# EAGLE library part LM2671 (library microbuilder)
LM2671 High Efficiency 500mA Switching Step-Down Voltage Regulator. 6.5-40V Input. 3.3V SOIC-8: Digikey LM2671M-3.3-ND
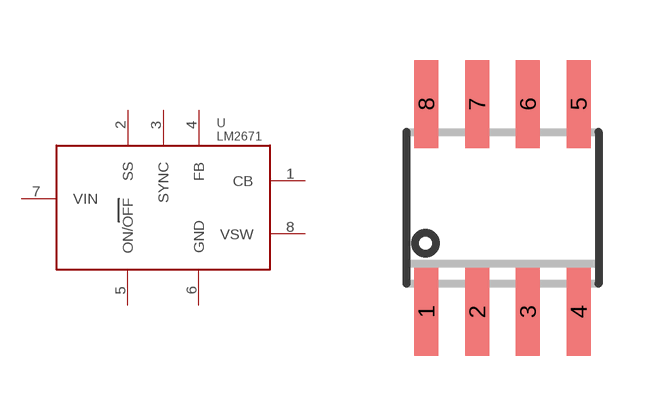
[diagram p55: symbol with the pads of SOIC8_150MIL; footprint SOIC8_150MIL]

Designator prefix U

## LM2671  [SOIC8_150MIL]
1  CB
2  SS
3  SYNC
4  FB
5  ON/OFF
6  GND
7  VIN
8  VSW

## Footprint SOIC8_150MIL (pad centres in mm)
Small Outline IC - 150mil Wide
smd 0.6 x 2.2: 1 -1.905,-2.6; 2 -0.635,-2.6; 3 0.635,-2.6; 4 1.905,-2.6; 5 1.905,2.6; 6 0.635,2.6; 7 -0.635,2.6; 8 -1.905,2.6